# Altium footprint library TE_9-6437287-8.PcbLib: 1 footprints
Each footprint in its own frame and in the unit in brackets; x right, y up, seen from the top. Pads: shape width x height; smd on the part's side, far side on the other; paste and mask are expansions set on the pad; w line width, h text height; cw(c..) or ccw(c..) is an arc to the next point about the centre after c.
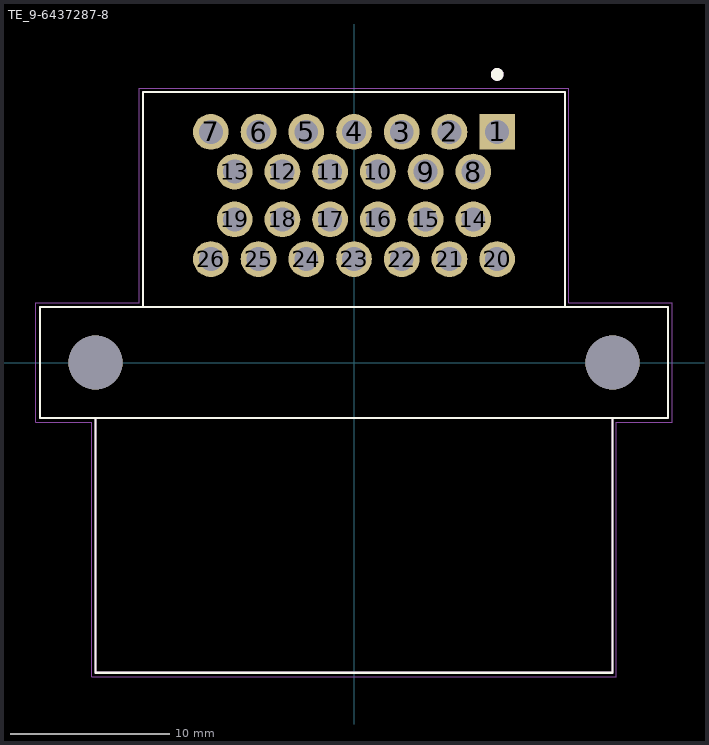
[diagram p0: the footprint, top view; thin cyan lines are the x and y axes]

## TE_9-6437287-8 [mm]
pads (28):
  rect 2.25x2.25 hole 1.5: 1(9,14.5)
  round 2.25 hole 1.5: 2(6,14.5) 3(3,14.5) 4(0,14.5) 5(-3,14.5) 6(-6,14.5) 7(-9,14.5) 8(7.5,12) 9(4.5,12) 10(1.5,12) 11(-1.5,12) 12(-4.5,12) 13(-7.5,12) 14(7.5,9) 15(4.5,9) 16(1.5,9) 17(-1.5,9) 18(-4.5,9) 19(-7.5,9) 20(9,6.5) 21(6,6.5) 22(3,6.5) 23(0,6.5) 24(-3,6.5) 25(-6,6.5) 26(-9,6.5)
  round 3.4 hole 3.4 unplated: ""(-16.25,0) ""(16.25,0)
Top Overlay:
  circle w0.4: c9.001,18.108 r0.2
  lines w0.127: -16.25,-3.5 -19.75,-3.5 -19.75,3.5 -13.25,3.5 ; -16.25,-3.5 16.25,-3.5 ; -16.25,-3.5 -16.25,-19.5 16.25,-19.5 16.25,-3.5 ; -13.25,3.5 13.25,3.5 ; -13.25,3.5 -13.25,17 13.25,17 13.25,3.5 ; 13.25,3.5 19.75,3.5 19.75,-3.5 16.25,-3.5
Mechanical 13:
  circle w0.4: c9.001,18.108 r0.2
  lines w0.127: -16.25,-3.5 -19.75,-3.5 -19.75,3.5 -13.25,3.5 ; -16.25,-3.5 16.25,-3.5 ; -16.25,-3.5 -16.25,-19.5 16.25,-19.5 16.25,-3.5 ; -13.25,3.5 13.25,3.5 ; -13.25,3.5 -13.25,17 13.25,17 13.25,3.5 ; 13.25,3.5 19.75,3.5 19.75,-3.5 16.25,-3.5
Mechanical 15:
  lines w0.05: -20,-3.75 -16.5,-3.75 -16.5,-19.75 16.5,-19.75 16.5,-3.75 20,-3.75 20,3.75 13.5,3.75 13.5,17.25 -13.5,17.25 -13.5,3.75 -20,3.75 -20,-3.75